# EAGLE library part TXB0108 (library OldModernDeviceBackup)
TXB0108 Dual Voltage Level Shifter Side A 1.2 V to 3.6 V Side B 1.65 to 5.5
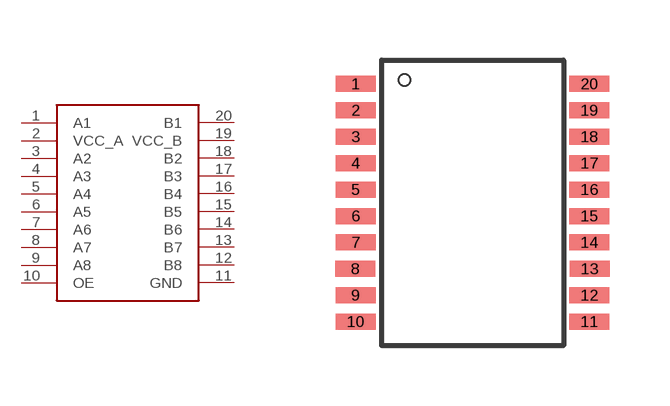
[diagram p29: symbol with the pads of TSSOP20; footprint TSSOP20]

Designator prefix -

## TXB0108  [TSSOP20]
1  A1
2  VCC_A
3  A2
4  A3
5  A4
6  A5
7  A6
8  A7
9  A8
10  OE
11  GND
12  B8
13  B7
14  B6
15  B5
16  B4
17  B3
18  B2
19  VCC_B
20  B1

## Footprint TSSOP20 (pad centres in mm)
smd 1 x 0.4: 1 -2.937,2.693; 2 -2.937,2.032; 3 -2.937,1.372; 4 -2.937,0.712; 5 -2.937,0.051; 6 -2.937,-0.609; 7 -2.937,-1.27; 8 -2.943,-1.93; 9 -2.937,-2.59; 10 -2.937,-3.251; 11 2.905,-3.251; 12 2.905,-2.59; 13 2.911,-1.93; 14 2.905,-1.27; 15 2.905,-0.609; 16 2.905,0.051; 17 2.905,0.712; 18 2.905,1.372; 19 2.905,2.032; 20 2.905,2.693